# Altium integrated library Diodes.IntLib: 49 symbols
Pins are listed as number, name and electrical type; pins without a type are passive.

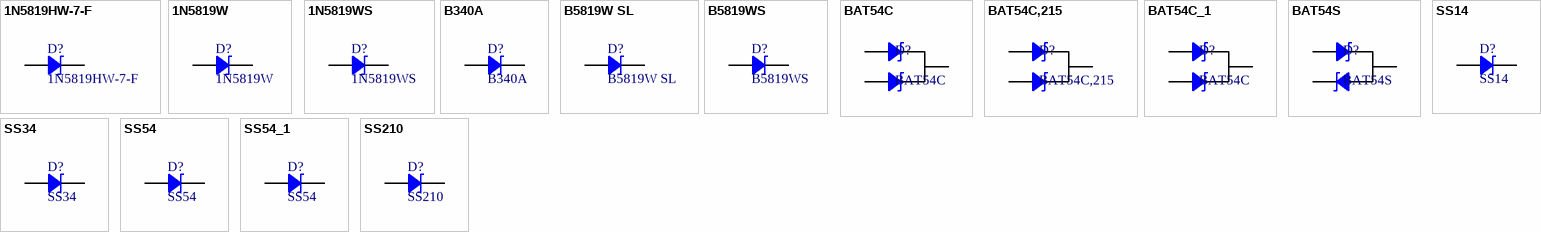
[diagram p0: symbols 1N5819HW-7-F to SS210]

## 1N5819HW-7-F
designator D?
DIODES(美台) 电压:40V 电流:5A; 封装: SOD-123; 类别: 肖特基二极管; 正向压降: 450mV@1A; 直流反向耐压: 40V; 整流电流: 1A; 反向电流: 1mA@40V; 制造商: DIODES(美台); 子类别: -
footprint DIODES-SOD123 (DIODES(美台) SOD123 推荐封装)
pins: 1, 2

## 1N5819W
designator D?
JSMSEMI(杰盛微) 电压:40V 电流:1A; 制造商: Hottech(合科泰); 封装: SOD-123; 类别: 肖特基二极管; 正向压降: 600mV@200mA; 直流反向耐压: 40V; 整流电流: 350mA; 反向电流: 5uA@30V; 子类别: -
footprint JSMSEMI-SOD123 (JSMSEMI(杰盛微) SOD123 推荐封装)
pins: 1, 2

## 1N5819WS
designator D?
Hottech(合科泰) 电压:40V 电流:1A; 封装: SOD-323; 类别: 肖特基二极管; 正向压降: 600mV@1A; 直流反向耐压: 40V; 整流电流: 1A; 制造商: Hottech(合科泰); 子类别: -; 反向电流: -
footprint Hottech-SOD323 (Hottech(合科泰) SOD-323推荐焊盘)
pins: 1, 2

## B340A
designator D?
MDD(辰达半导体) 电压:40V 电流:5A; 封装: DO-214AC; 类别: 肖特基二极管; 正向压降: 550mV@3A; 直流反向耐压: 40V; 整流电流: 3A; 反向电流: 500uA@40V; 制造商: MDD(辰达半导体); 子类别: -
footprint MDD-DO-214AC (MDD(辰达半导体) DO-214AC 推荐焊盘)
pins: 1, 2

## B5819W SL
designator D?
CJ(江苏长电/长晶) 电压:40V 电流:1A; 制造商: MDD(辰达半导体); 封装: DO-214AC; 类别: 肖特基二极管; 正向压降: 600mV@1A; 直流反向耐压: 40V; 整流电流: 1A; 子类别: -; 反向电流: -
footprint CJ-SOD123 (CJ(江苏长电/长晶) SOD123 推荐封装)
pins: 1, 2

## B5819WS
designator D?
宏嘉诚 电压:40V 电流:1A; 封装: SOD-323; 类别: 肖特基二极管; 正向压降: 600mV@1.0A; 直流反向耐压: 40V; 整流电流: 1A; 反向电流: 1mA@40V; 制造商: 宏嘉诚; 子类别: -
footprint HJC-SOD323 (宏嘉诚 SOD-323推荐焊盘)
pins: 1, 2

## BAT54C
designator D?
宏嘉诚 电压:30V 电流:200mA; 封装: SOT-23; 类别: 肖特基二极管; 正向压降: 400mV@10mA; 直流反向耐压: 30V; 整流电流: 200mA; 反向电流: 2uA@30V; 制造商: 宏嘉诚; 子类别: -
footprint HJC-SOT23 (宏嘉诚 SOT23 回流焊)
pins: 1, 2, 3

## BAT54C,215
designator D?
Nexperia(安世) 电压:30V 电流:200mA; 封装: SOT-23; 类别: 肖特基二极管; 正向压降: 800mV@100mA; 直流反向耐压: 30V; 整流电流: 200mA; 反向电流: 2uA@25V; 制造商: Nexperia(安世); 子类别: -
footprint Nexperia-SOT23-Reflow (Nexperia(安世) SOT23 回流焊)
footprint Nexperia-SOT23-WAVE (Nexperia(安世) SOT23 波峰焊)
pins: 1, 2, 3

## BAT54C_1
designator D?, comment BAT54C
CJ(江苏长电/长晶) 电压:30V 电流:200mA; 封装: SOT-23; 类别: 肖特基二极管; 正向压降: 1V@100mA; 直流反向耐压: 30V; 整流电流: 200mA; 制造商: CJ(江苏长电/长晶); 子类别: -; 反向电流: -
footprint CJ-SOT23 (CJ(江苏长电/长晶) SOT23 回流焊)
pins: 1, 2, 3

## BAT54S
designator D?
宏嘉诚 电压:30V 电流:200mA; 封装: SOT-23; 类别: 肖特基二极管; 正向压降: 400mV@10mA; 直流反向耐压: 30V; 整流电流: 200mA; 反向电流: 2uA@30V; 制造商: 宏嘉诚; 子类别: -
footprint HJC-SOT23 (宏嘉诚 SOT23 回流焊)
pins: 1, 2, 3

## SS14
designator D?
MDD(辰达半导体) 电压:40V 电流:1A; 封装: DO-214AC; 类别: 肖特基二极管; 正向压降: 550mV@1A; 直流反向耐压: 40V; 整流电流: 1A; 反向电流: 300uA@40V; 制造商: MDD(辰达半导体); 子类别: -
footprint MDD-DO-214AC (MDD(辰达半导体) DO-214AC 推荐焊盘)
pins: 1, 2

## SS34
designator D?
MDD(辰达半导体) 电压:40V 电流:3A; 封装: DO-214AC; 类别: 肖特基二极管; 正向压降: 550mV@3A; 直流反向耐压: 40V; 整流电流: 3A; 反向电流: 500uA@40V; 制造商: MDD(辰达半导体); 子类别: -
footprint MDD-DO-214AC (MDD(辰达半导体) DO-214AC 推荐焊盘)
pins: 1, 2

## SS54
designator D?
MDD(辰达半导体) 电压:40V 电流:5A; 封装: DO-214AC; 类别: 肖特基二极管; 正向压降: 550mV@5A; 直流反向耐压: 40V; 整流电流: 5A; 反向电流: 1mA@40V; 制造商: MDD(辰达半导体); 子类别: -
footprint MDD-DO-214AC (MDD(辰达半导体) DO-214AC 推荐焊盘)
pins: 1, 2

## SS54_1
designator D?, comment SS54
宏嘉诚 电压:40V 电流:5A; 封装: DO-214AC; 类别: 肖特基二极管; 正向压降: 550mV@5.0A; 直流反向耐压: 40V; 整流电流: 5A; 反向电流: 50uA@40V; 制造商: 宏嘉诚; 子类别: -
footprint HJC-DO-214AC (宏嘉诚 DO-214AC 推荐焊盘)
pins: 1, 2

## SS210
designator D?
MDD(辰达半导体) 电压:100V 电流:2A; 封装: DO-214AC; 类别: 肖特基二极管; 正向压降: 850mV@2A; 直流反向耐压: 100V; 整流电流: 2A; 反向电流: 500uA@100V; 制造商: MDD(辰达半导体); 子类别: -
footprint MDD-DO-214AC (MDD(辰达半导体) DO-214AC 推荐焊盘)
pins: 1, 2


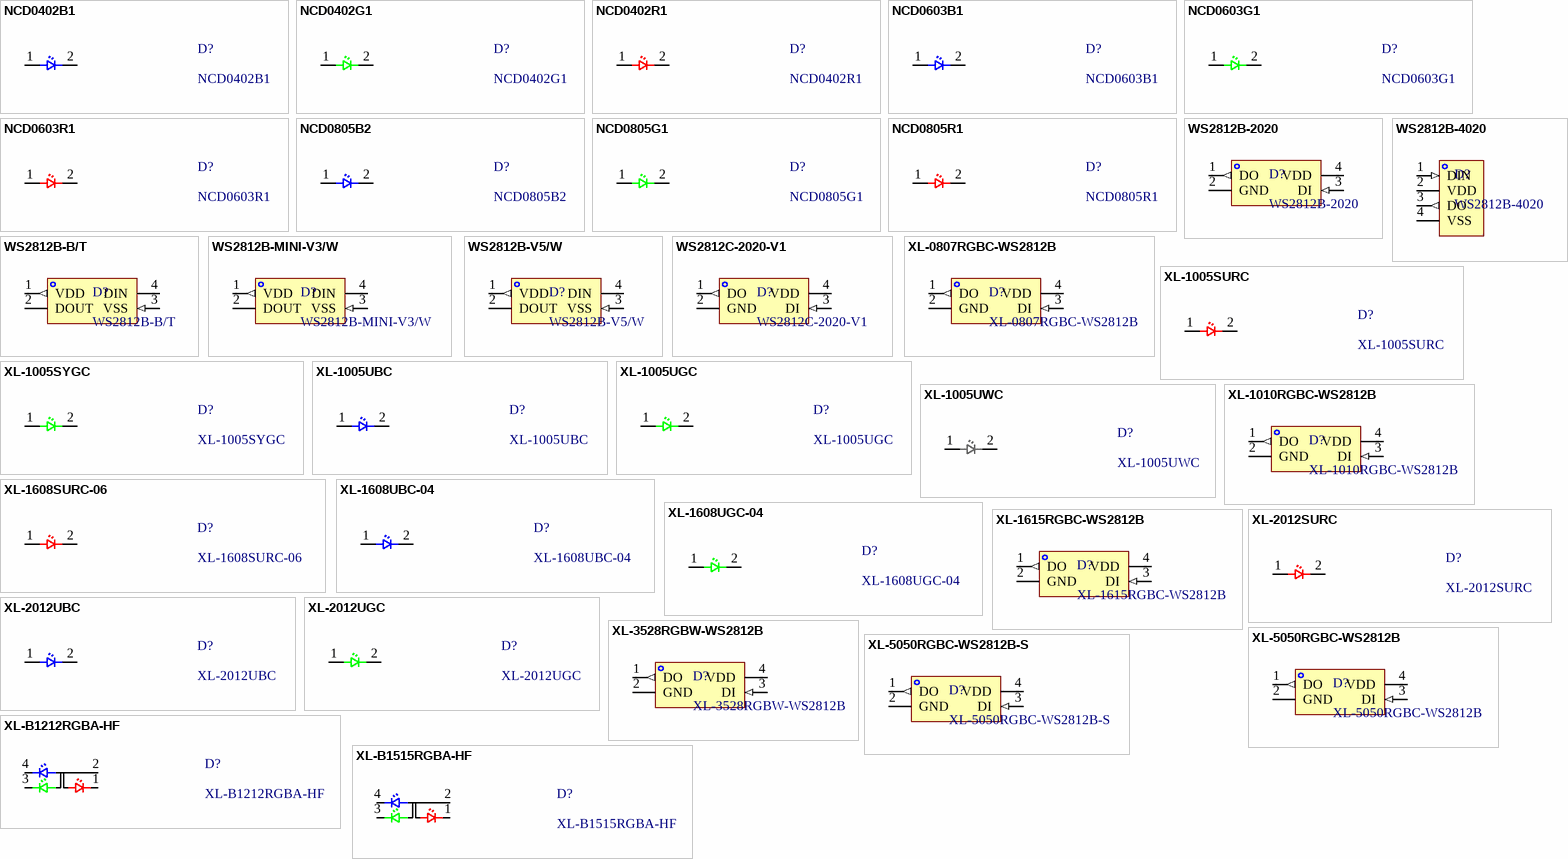
[diagram p1: symbols NCD0402B1 to XL-B1515RGBA-HF]

## NCD0402B1
designator D?
国星光电 发光二极管  蓝色 0402; 封装: 0402; 类别: LED; 透镜颜色: 无色透明透镜; 正向电流: 20mA; 发光角度: 130°; 工作温度: -30℃~+85℃; 正向压降: 2.6V~3.6V; 发光强度: 16mcd~45mcd; 制造商: 国星光电; 发光颜色: 蓝色
footprint GX-0402-BLUE (国星光电 0402 LED封装 蓝色)
pins: 1 +, 2 -

## NCD0402G1
designator D?
国星光电 发光二极管  翠绿色 0402; 封装: 0402; 类别: LED; 透镜颜色: 无色透明透镜; 正向电流: 20mA; 发光角度: 130°; 工作温度: -30℃~+85℃; 正向压降: 2.6V~3.6V; 发光强度: 100mcd~270mcd; 制造商: 国星光电; 发光颜色: 翠绿色
footprint GX-0402-GREEN (国星光电 0402 LED封装 绿色)
pins: 1 +, 2 -

## NCD0402R1
designator D?
国星光电 发光二极管  红色 0402; 封装: 0402; 类别: LED; 透镜颜色: 无色透明透镜; 正向电流: 25mA; 发光角度: 130°; 工作温度: -30℃~+85℃; 正向压降: 1.6V~2.6V; 发光强度: 13mcd~30mcd; 制造商: 国星光电; 发光颜色: 红色
footprint GX-0402-RED (国星光电 0402 LED封装 红色)
pins: 1 +, 2 -

## NCD0603B1
designator D?
国星光电 发光二极管  蓝色 0603; 封装: 0603; 类别: LED; 透镜颜色: 无色透明透镜; 正向电流: 10mA; 发光角度: 130°; 工作温度: -30℃~+85℃; 正向压降: 2.6V~3.6V; 发光强度: 80mcd~220mcd; 制造商: 国星光电; 发光颜色: 蓝色
footprint GX-0603-BLUE (国星光电 0603 LED封装 蓝色)
pins: 1 +, 2 -

## NCD0603G1
designator D?
国星光电 发光二极管  翠绿色 0603; 封装: 0603; 类别: LED; 透镜颜色: 无色透明透镜; 正向电流: 20mA; 发光角度: 130°; 工作温度: -30℃~+85℃; 正向压降: 2.6V~3.6V; 发光强度: 330mcd~900mcd; 制造商: 国星光电; 发光颜色: 翠绿色
footprint GX-0603-GREEN (国星光电 0603 LED封装 绿色)
pins: 1 +, 2 -

## NCD0603R1
designator D?
国星光电 发光二极管  红色 0603; 封装: 0603; 类别: LED; 透镜颜色: 无色透明透镜; 正向电流: 25mA; 发光角度: 130°; 工作温度: -30℃~+85℃; 正向压降: 1.6V~2.6V; 发光强度: 80mcd~220mcd; 制造商: 国星光电; 发光颜色: 红色
footprint GX-0603-RED (国星光电 0603 LED封装 红色)
pins: 1 +, 2 -

## NCD0805B2
designator D?
国星光电 发光二极管  蓝色 0805; 封装: 0805; 类别: LED; 透镜颜色: 无色透明透镜; 正向电流: 20mA; 发光角度: 120°; 工作温度: -30℃~+85℃; 正向压降: 2.5V~3.6V; 发光强度: 20mcd~55mcd; 制造商: 国星光电; 发光颜色: 蓝色
footprint GX-0805-BLUE (国星光电 0805 LED封装 蓝色)
pins: 1 +, 2 -

## NCD0805G1
designator D?
国星光电 发光二极管  翠绿色 0805; 封装: 0805; 类别: LED; 透镜颜色: 无色透明透镜; 正向电流: 20mA; 发光角度: 130°; 工作温度: -30℃~+85℃; 正向压降: 2.6V~3.6V; 发光强度: 180mcd~400mcd; 制造商: 国星光电; 发光颜色: 翠绿色
footprint GX-0805-GREEN (国星光电 0805 LED封装 绿色)
pins: 1 +, 2 -

## NCD0805R1
designator D?
国星光电 发光二极管  红色 0805; 封装: 0805; 类别: LED; 透镜颜色: 无色透明透镜; 正向电流: 25mA; 发光角度: 120°; 工作温度: -30℃~+85℃; 正向压降: 1.6V~2.6V; 发光强度: 67mcd~195mcd; 制造商: 国星光电; 发光颜色: 红色
footprint GX-0805-RED (国星光电 0805 LED封装 红色)
pins: 1 +, 2 -

## WS2812B-2020
designator D?
worldsemi 带IC发光二极管 七彩 2020; 发光强度: R:200mcd; G:520mcd; B:160mcd; 子类别: 寻址RGB LED; 封装: SMD,2.2x2mm; 正向电流: RGB:12mA; 类别: LED; 透镜颜色: 无色透明透镜; 制造商: worldsemi; 发光角度: -; 发光颜色: 七彩; 工作温度: -; 正向压降: -
footprint worldsemi-2020 (worldsemi SMD2020 推荐焊盘)
pins: 1 DO (out), 2 GND, 3 DI (in), 4 VDD (power)

## WS2812B-4020
designator D?
worldsemi 带IC发光二极管 七彩 4020; 发光强度: R:500mcd; G:1000mcd; B:300mcd; 子类别: 寻址RGB LED; 封装: SMD,2x4mm; 正向电流: RGB:12mA; 类别: LED; 透镜颜色: 无色透明透镜; 制造商: worldsemi; 发光角度: -; 发光颜色: 七彩; 工作温度: -; 正向压降: -
footprint worldsemi-4020 (worldsemi SMD4020 推荐焊盘)
pins: 1 DIN (in), 2 VDD (power), 3 DO (out), 4 VSS

## WS2812B-B/T
designator D?
worldsemi 带IC发光二极管 七彩 5050; 发光强度: R:380mcd; G:710mcd; B:215mcd; 子类别: 寻址RGB LED; 封装: SMD5050; 正向电流: RGB:12mA; 类别: LED; 透镜颜色: 雾面透镜; 制造商: worldsemi; 发光角度: -; 发光颜色: 七彩; 工作温度: -; 正向压降: -
footprint worldsemi-5050-B (worldsemi SMD5050 推荐焊盘 黑色)
pins: 1 VDD (out), 2 DOUT, 3 VSS (in), 4 DIN (power)

## WS2812B-MINI-V3/W
designator D?
worldsemi 带IC发光二极管 七彩 3535; 发光强度: R:500mcd; G:1000mcd; B:300mcd; 子类别: 寻址RGB LED; 封装: SMD3535; 正向电流: RGB:12mA; 类别: LED; 透镜颜色: 无色透明透镜; 制造商: worldsemi; 发光角度: -; 发光颜色: 七彩; 工作温度: -; 正向压降: -
footprint worldsemi-3535 (XINGLIGHT(成兴光) SMD3535 推荐焊盘 白色)
pins: 1 VDD (out), 2 DOUT, 3 VSS (in), 4 DIN (power)

## WS2812B-V5/W
designator D?
worldsemi 带IC发光二极管 七彩 5050; 发光强度: R:380mcd; G:710mcd; B:215mcd; 子类别: 寻址RGB LED; 封装: SMD5050; 正向电流: RGB:12mA; 类别: LED; 透镜颜色: 雾面透镜; 制造商: worldsemi; 发光角度: -; 发光颜色: 七彩; 工作温度: -; 正向压降: -
footprint worldsemi-5050-W (worldsemi SMD5050 推荐焊盘 白色2)
pins: 1 VDD (out), 2 DOUT, 3 VSS (in), 4 DIN (power)

## WS2812C-2020-V1
designator D?
worldsemi 带IC发光二极管 七彩 2020; 发光强度: R:130mcd; G:320mcd; B:60mcd; 子类别: 寻址RGB LED; 封装: SMD,2x2mm; 正向电流: RGB:5mA; 类别: LED; 透镜颜色: 无色透明透镜; 制造商: worldsemi; 发光角度: -; 发光颜色: 七彩; 工作温度: -; 正向压降: -
footprint worldsemi-2020 (worldsemi SMD2020 推荐焊盘)
pins: 1 DO (out), 2 GND, 3 DI (in), 4 VDD (power)

## XL-0807RGBC-WS2812B
designator D?
XINGLIGHT(成兴光) 带IC发光二极管 七彩 SMD,1.8x2mm; 发光强度: R:200mcd; G:800mcd; B:300mcd; 发光角度: 120°; 子类别: 寻址RGB LED; 工作温度: -20℃~+85℃; 正向电流: RGB:20mA; 类别: LED; 透镜颜色: 无色透明透镜; 制造商: XINGLIGHT(成兴光); 发光颜色: 七彩; 封装: SMD,1.8x2mm; 正向压降: -
footprint XINGLIGHT-1820 (XINGLIGHT(成兴光) SMD1820 0807 推荐焊盘 白色)
pins: 1 DO (out), 2 GND, 3 DI (in), 4 VDD (power)

## XL-1005SURC
designator D?
XINGLIGHT(成兴光) 发光二极管  红色 0402; 封装: 0402; 类别: LED; 透镜颜色: 无色透明透镜; 正向电流: 20mA; 发光角度: 120°; 工作温度: -20℃~+85℃; 正向压降: 2.4V; 发光强度: 200mcd; 制造商: XINGLIGHT(成兴光); 发光颜色: 红色
footprint GX-0402-RED (国星光电 0402 LED封装 红色)
pins: 1 +, 2 -

## XL-1005SYGC
designator D?
XINGLIGHT(成兴光) 发光二极管  绿色 0402; 封装: 0402; 类别: LED; 发光颜色: 翠绿色; 透镜颜色: 无色透明透镜; 正向电流: 25mA; 发光角度: 120°; 工作温度: -20℃~+85℃; 正向压降: 2.3V; 发光强度: 240mcd; 制造商: XINGLIGHT(成兴光)
footprint XINGLIGHT-0402-GREEN (XINGLIGHT(成兴光) 0402 LED封装 绿色)
pins: 1 +, 2 -

## XL-1005UBC
designator D?
XINGLIGHT(成兴光) 发光二极管  蓝色 0402; 封装: 0402; 类别: LED; 透镜颜色: 无色透明透镜; 正向电流: 20mA; 发光角度: 120°; 工作温度: -20℃~+85℃; 正向压降: 3.3V; 发光强度: 240mcd; 制造商: XINGLIGHT(成兴光); 发光颜色: 蓝色
footprint GX-0402-BLUE (国星光电 0402 LED封装 蓝色)
pins: 1 +, 2 -

## XL-1005UGC
designator D?
XINGLIGHT(成兴光) 发光二极管  翠绿色 0402; 封装: 0402; 类别: LED; 透镜颜色: 无色透明透镜; 正向电流: 25mA; 发光角度: 120°; 工作温度: -20℃~+85℃; 正向压降: 3V; 发光强度: 249mcd; 制造商: XINGLIGHT(成兴光); 发光颜色: 翠绿色
footprint XINGLIGHT-0402-GREEN (XINGLIGHT(成兴光) 0402 LED封装 绿色)
pins: 1 +, 2 -

## XL-1005UWC
designator D?
XINGLIGHT(成兴光) 发光二极管  白色 0402; 封装: 0402; 类别: LED; 透镜颜色: 无色透明透镜; 正向电流: 5mA; 发光角度: 120°; 工作温度: -20℃~+85℃; 正向压降: 2.8V; 发光强度: 1000mcd; 制造商: XINGLIGHT(成兴光); 发光颜色: 白色
footprint XINGLIGHT-0402-WHITE (XINGLIGHT(成兴光) 0402 LED封装 白色)
pins: 1 +, 2 -

## XL-1010RGBC-WS2812B
designator D?
XINGLIGHT(成兴光) 带IC发光二极管 七彩 SMD1010; 发光强度: R:200mcd; G:800mcd; B:300mcd; 发光角度: 120°; 子类别: 寻址RGB LED; 封装: SMD,1x1mm; 工作温度: -20℃~+85℃; 正向电流: RGB:20mA; 类别: LED; 透镜颜色: 无色透明透镜; 制造商: XINGLIGHT(成兴光); 发光颜色: 七彩; 正向压降: -
footprint XINGLIGHT-1010 (XINGLIGHT(成兴光) SMD1010 推荐焊盘)
pins: 1 DO (out), 2 GND, 3 DI (in), 4 VDD (power)

## XL-1608SURC-06
designator D?
XINGLIGHT(成兴光) 发光二极管  红色 0603; 封装: 0603; 类别: LED; 透镜颜色: 无色透明透镜; 正向电流: 20mA; 发光角度: 120°; 工作温度: -30℃~+85℃; 正向压降: 2.3V; 发光强度: 225mcd; 制造商: XINGLIGHT(成兴光); 发光颜色: 红色
footprint XINGLIGHT-0603-RED (XINGLIGHT(成兴光) 0603 LED封装 红色)
pins: 1 +, 2 -

## XL-1608UBC-04
designator D?
XINGLIGHT(成兴光) 发光二极管  蓝色 0603; 封装: 0603; 类别: LED; 透镜颜色: 无色透明透镜; 正向电流: 20mA; 发光角度: 120°; 工作温度: -20℃~+85℃; 正向压降: 3.3V; 发光强度: 300mcd; 制造商: XINGLIGHT(成兴光); 发光颜色: 蓝色
footprint XINGLIGHT-0603-BLUE (XINGLIGHT(成兴光) 0603 LED封装 蓝色)
pins: 1 +, 2 -

## XL-1608UGC-04
designator D?
XINGLIGHT(成兴光) 发光二极管  翠绿色 0603; 封装: 0603; 类别: LED; 透镜颜色: 无色透明透镜; 正向电流: 20mA; 发光角度: 120°; 工作温度: -20℃~+85℃; 正向压降: 3.2V; 发光强度: 810mcd; 制造商: XINGLIGHT(成兴光); 发光颜色: 翠绿色
footprint XINGLIGHT-0603-GREEN (XINGLIGHT(成兴光) 0603 LED封装 绿色)
pins: 1 +, 2 -

## XL-1615RGBC-WS2812B
designator D?
XINGLIGHT(成兴光) 带IC发光二极管 七彩 SMD1615; 发光强度: R:110mcd; G:330mcd; B:90mcd; 发光角度: 120°; 子类别: 寻址RGB LED; 封装: SMD,1.6x1.5mm; 工作温度: -20℃~+85℃; 正向电流: RGB:5mA; 类别: LED; 透镜颜色: 无色透明透镜; 制造商: XINGLIGHT(成兴光); 发光颜色: 七彩; 正向压降: -
footprint XINGLIGHT-1615 (XINGLIGHT(成兴光) SMD1615 推荐焊盘 白色)
pins: 1 DO (out), 2 GND, 3 DI (in), 4 VDD (power)

## XL-2012SURC
designator D?
XINGLIGHT(成兴光) 发光二极管  红色 0805; 封装: 0805; 类别: LED; 透镜颜色: 无色透明透镜; 正向电流: 20mA; 发光角度: 120°; 工作温度: -30℃~+85℃; 正向压降: 2.3V; 发光强度: 230mcd; 制造商: XINGLIGHT(成兴光); 发光颜色: 红色
footprint XINGLIGHT-0805-RED (XINGLIGHT(成兴光) 0805 LED封装 红色)
pins: 1 +, 2 -

## XL-2012UBC
designator D?
XINGLIGHT(成兴光) 发光二极管  蓝色 0805; 封装: 0805; 类别: LED; 透镜颜色: 无色透明透镜; 正向电流: 20mA; 发光角度: 120°; 工作温度: -20℃~+85℃; 正向压降: 3.2V; 发光强度: 260mcd; 制造商: XINGLIGHT(成兴光); 发光颜色: 蓝色
footprint XINGLIGHT-0805-BLUE (XINGLIGHT(成兴光) 0805 LED封装 蓝色)
pins: 1 +, 2 -

## XL-2012UGC
designator D?
XINGLIGHT(成兴光) 发光二极管  翠绿色 0805; 封装: 0805; 类别: LED; 透镜颜色: 无色透明透镜; 正向电流: 20mA; 发光角度: 120°; 工作温度: -20℃~+85℃; 正向压降: 3.2V; 发光强度: 750mcd; 制造商: XINGLIGHT(成兴光); 发光颜色: 翠绿色
footprint XINGLIGHT-0805-GREEN (XINGLIGHT(成兴光) 0805 LED封装 绿色)
pins: 1 +, 2 -

## XL-3528RGBW-WS2812B
designator D?
XINGLIGHT(成兴光) 带IC发光二极管 七彩 SMD3528; 发光强度: R:300mcd; G:800mcd; B:200mcd; 发光角度: 120°; 子类别: 寻址RGB LED; 工作温度: -20℃~+85℃; 正向电流: RGB:12mA; 类别: LED; 透镜颜色: 无色透明透镜; 制造商: XINGLIGHT(成兴光); 发光颜色: 七彩; 封装: SMD3528; 正向压降: -
footprint XINGLIGHT-3528 (XINGLIGHT(成兴光) SMD3528 推荐焊盘 白色)
pins: 1 DO (out), 2 GND, 3 DI (in), 4 VDD (power)

## XL-5050RGBC-WS2812B
designator D?
XINGLIGHT(成兴光) 带IC发光二极管 七彩 SMD5050; 发光强度: R:700mcd; G:1800mcd; B:500mcd; 发光角度: 120°; 子类别: 寻址RGB LED; 工作温度: -20℃~+85℃; 正向电流: RGB:12mA; 类别: LED; 透镜颜色: 无色透明透镜; 制造商: XINGLIGHT(成兴光); 发光颜色: 七彩; 封装: SMD5050; 正向压降: -
footprint XINGLIGHT-5050-W (XINGLIGHT(成兴光) SMD5050 推荐焊盘 白色)
pins: 1 DO (out), 2 GND, 3 DI (in), 4 VDD (power)

## XL-5050RGBC-WS2812B-S
designator D?
XINGLIGHT(成兴光) 带IC发光二极管 七彩 SMD5050; 发光强度: R:600mcd; G:1400mcd; B:400mcd; 发光角度: 120°; 子类别: 寻址RGB LED; 工作温度: -20℃~+85℃; 正向电流: RGB:12mA; 类别: LED; 透镜颜色: 无色透明透镜; 制造商: XINGLIGHT(成兴光); 发光颜色: 七彩; 封装: SMD5050; 正向压降: -
footprint XINGLIGHT-5050-W (XINGLIGHT(成兴光) SMD5050 推荐焊盘 白色)
pins: 1 DO (out), 2 GND, 3 DI (in), 4 VDD (power)

## XL-B1212RGBA-HF
designator D?
XINGLIGHT(成兴光) 发光二极管 七彩 1212 黑色哑光 50mW；70mW；70mW 20mA -20℃~+85℃; 封装: SMD-4P,1.2x1.2mm; 类别: LED; 子类别: RGB LED; 正向电流: RGB:20mA; 发光角度: 120°; 正向压降: R:2.1V; G:2.9V; B:2.8V; 发光强度: R:105mcd; G:355mcd; B:70mcd; 制造商: XINGLIGHT(成兴光); 发光颜色: 七彩; 透镜颜色: 黑色哑光; 工作温度: -20℃~+85℃
footprint XL-B1212RGBA-HF (XL-B1212RGBA-HF 推荐焊盘 有标记版本)
footprint XL-B1212RGBA-HF_2oz (XL-B1212RGBA-HF 推荐焊盘 有标记版本 / 阻焊扩展为0.02，满足2oz铜厚以上的阻焊桥间距需要大于0.2mm的要求)
footprint XL-B1212RGBA-HF_ARRAY (XL-B1212RGBA-HF 推荐焊盘 阵列无标记版本)
footprint XL-B1212RGBA-HF_ARRAY_2oz (XL-B1212RGBA-HF 推荐焊盘 阵列无标记版本 / 阻焊扩展为0.02，满足2oz铜厚以上的阻焊桥间距需要大于0.2mm的要求)
pins: 1 R, 2 +, 3 G, 4 B

## XL-B1515RGBA-HF
designator D?
XINGLIGHT(成兴光) 发光二极管 七彩 1515 黑色哑光 50mW；70mW；70mW 20mA -20℃~+85℃; 封装: SMD-4P,1.6x1.5mm; 类别: LED; 子类别: RGB LED; 正向电流: RGB:20mA; 发光角度: 120°; 正向压降: R:2.3V; G:3.2V; B:3.0V; 发光强度: R:120mcd; G:500mcd; B:80mcd; 制造商: XINGLIGHT(成兴光); 发光颜色: 七彩; 透镜颜色: 黑色哑光; 工作温度: -20℃~+85℃
footprint XL-B1515RGBA-HF (XL-B1515RGBA-HF 推荐焊盘 有标记版本)
footprint XL-B1515RGBA-HF_ARRAY (XL-B1515RGBA-HF 推荐焊盘 无标记版本)
pins: 1 R, 2 +, 3 G, 4 B